# Altium footprint library C_THT.PcbLib: 73 footprints (part 1 of 5)
Each footprint in its own frame and in the unit in brackets; x right, y up, seen from the top. Pads: shape width x height; smd on the part's side, far side on the other; paste and mask are expansions set on the pad; w line width, h text height; cw(c..) or ccw(c..) is an arc to the next point about the centre after c.
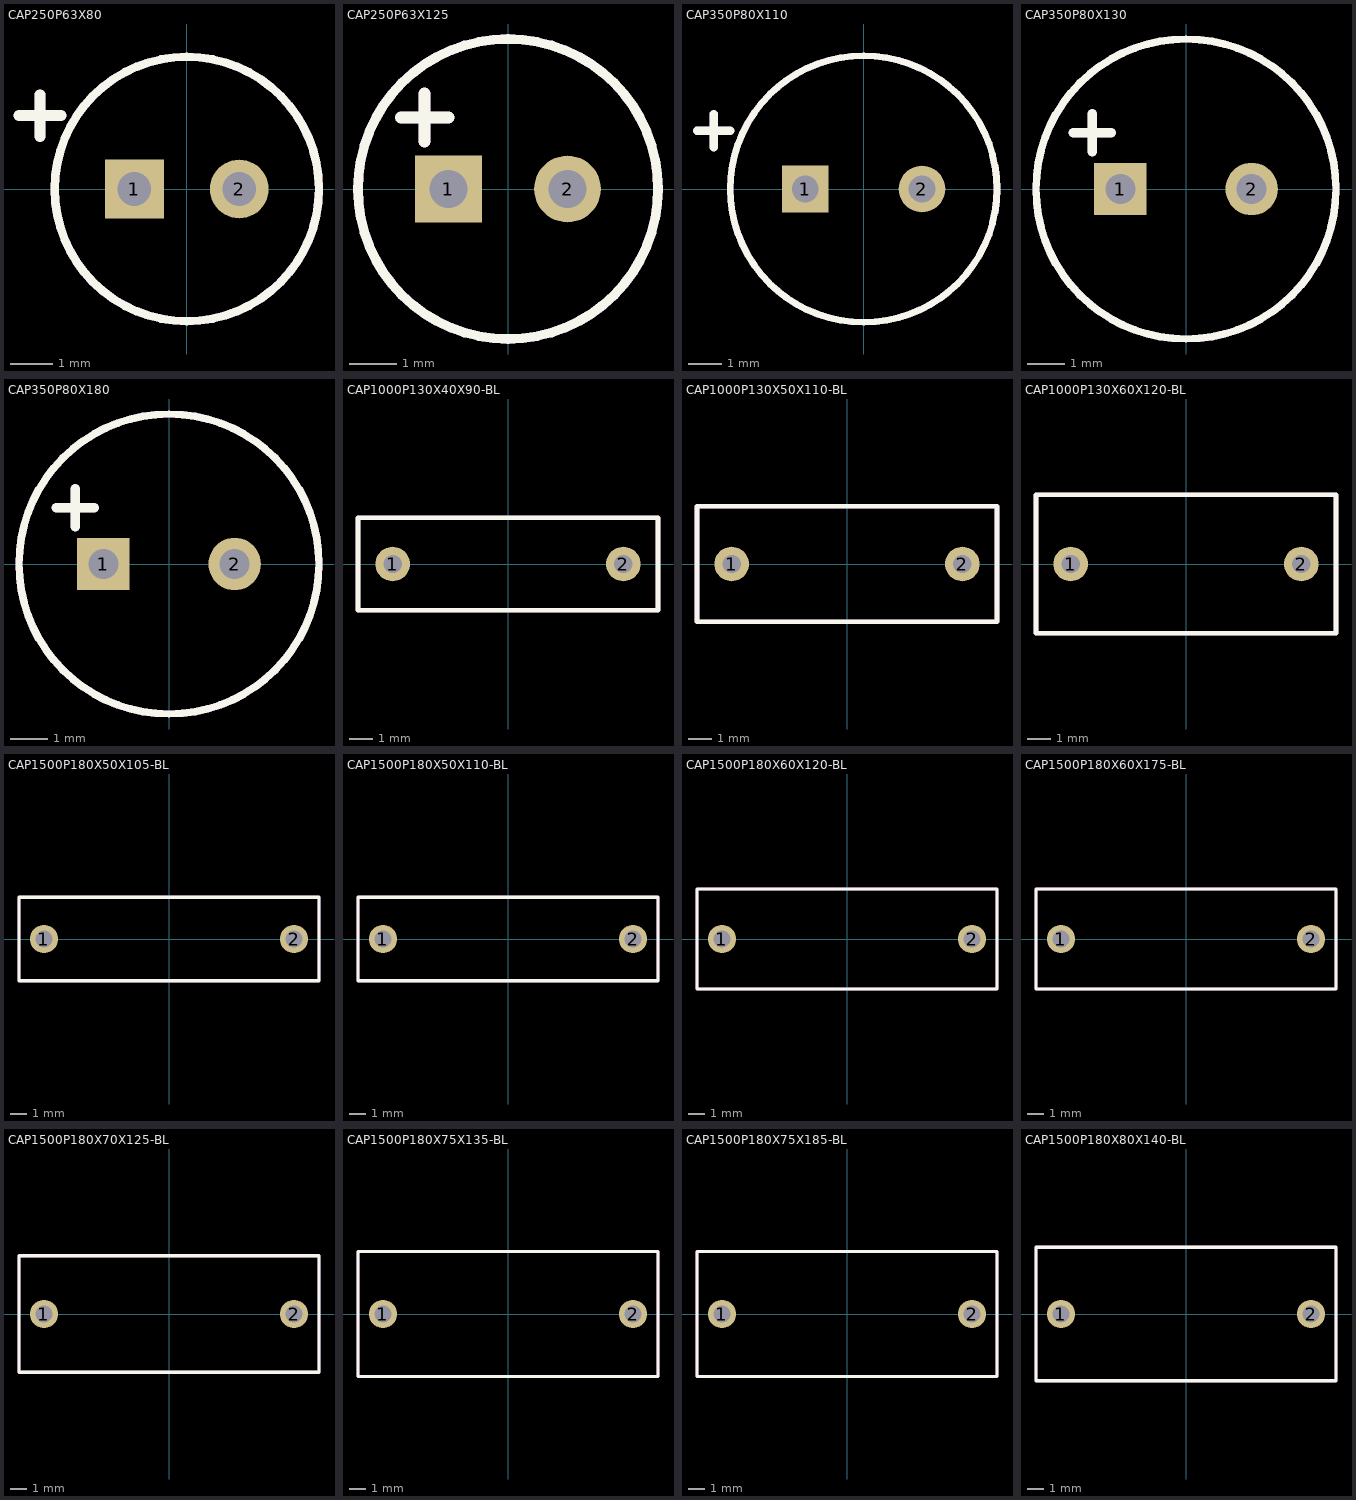
[diagram p0: the footprints below, top view; thin cyan lines are the x and y axes]

## CAP250P63X80 [mm]
height 18
pads (2):
  rect 1.4x1.4 hole 0.8: 1(-1.25,0)
  round 1.4 hole 0.8: 2(1.25,0)
Top Overlay:
  circle w0.2: c0,0 r3.15
  lines w0.254: -4,1.75 -3,1.75 ; -3.5,1.25 -3.5,2.25
Top Assembly:
  circle w0.2: c0,0 r3.15
  lines w0.254: -4,1.75 -3,1.75 ; -3.5,1.25 -3.5,2.25
3D body: height 0, standoff -3, extent 0.95,-0.3 1.55,0.3
3D body: height 0, standoff -3, extent -1.55,-0.3 -0.95,0.3
3D body: height 8, standoff 0, extent -3.15,-3.15 3.15,3.15
3D body: height 8.05, standoff 8, extent 1.575,-2.728 3.15,2.728

## CAP250P63X125 [mm]
height 18
pads (2):
  rect 1.4x1.4 hole 0.8: 1(-1.25,0)
  round 1.4 hole 0.8: 2(1.25,0)
Top Overlay:
  circle w0.2: c0,0 r3.15
  lines w0.254: -2.25,1.5 -1.25,1.5 ; -1.75,1 -1.75,2
Top Assembly:
  circle w0.2: c0,0 r3.15
  lines w0.254: -2.25,1.5 -1.25,1.5 ; -1.75,1 -1.75,2
3D body: height 12.5, standoff 0, extent -3.15,-3.15 3.15,3.15
3D body: height 0, standoff -3, extent -1.55,-0.3 -0.95,0.3
3D body: height 0, standoff -3, extent 0.95,-0.3 1.55,0.3

## CAP350P80X110 [mm]
height 18
pads (2):
  rect 1.4x1.4 hole 0.8: 1(-1.75,0)
  round 1.4 hole 0.8: 2(1.75,0)
Top Overlay:
  circle w0.2: c0,0 r4
  lines w0.254: -5,1.75 -4,1.75 ; -4.5,1.25 -4.5,2.25
Top Assembly:
  circle w0.2: c0,0 r4
  lines w0.254: -5,1.75 -4,1.75 ; -4.5,1.25 -4.5,2.25
3D body: height 11.05, standoff 11, extent 2,-3.464 4,3.464
3D body: height 11, standoff 0, extent -4,-4 4,4
3D body: height 0, standoff -3, extent -2.05,-0.3 -1.45,0.3
3D body: height 0, standoff -3, extent 1.45,-0.3 2.05,0.3

## CAP350P80X130 [mm]
height 18
pads (2):
  rect 1.4x1.4 hole 0.8: 1(-1.75,0)
  round 1.4 hole 0.8: 2(1.75,0)
Top Overlay:
  circle w0.2: c0,0 r4
  lines w0.254: -3,1.5 -2,1.5 ; -2.5,1 -2.5,2
Top Assembly:
  circle w0.2: c0,0 r4
  lines w0.254: -3,1.5 -2,1.5 ; -2.5,1 -2.5,2
3D body: height 0, standoff -3, extent 1.45,-0.3 2.05,0.3
3D body: height 0, standoff -3, extent -2.05,-0.3 -1.45,0.3
3D body: height 13, standoff 0, extent -4,-4 4,4

## CAP350P80X180 [mm]
height 18
pads (2):
  rect 1.4x1.4 hole 0.8: 1(-1.75,0)
  round 1.4 hole 0.8: 2(1.75,0)
Top Overlay:
  circle w0.2: c0,0 r4
  lines w0.254: -3,1.5 -2,1.5 ; -2.5,1 -2.5,2
Top Assembly:
  circle w0.2: c0,0 r4
  lines w0.254: -3,1.5 -2,1.5 ; -2.5,1 -2.5,2
3D body: height 0, standoff -3, extent 1.45,-0.3 2.05,0.3
3D body: height 0, standoff -3, extent -2.05,-0.3 -1.45,0.3
3D body: height 18, standoff 0, extent -4,-4 4,4

## CAP1000P130X40X90-BL [mm]
pads (2):
  round 1.5 hole 0.8: 1(-5,0) 2(5,0)
Top Overlay:
  lines w0.2: -6.5,-2 6.5,-2 6.5,2 -6.5,2 -6.5,-2
Top Assembly:
  lines w0.2: -6.5,-2 6.5,-2 6.5,2 -6.5,2 -6.5,-2
3D body: height 9, standoff 0, extent -6.5,-2 6.5,2
3D body: height 0, standoff -4, extent 4.7,-0.3 5.3,0.3
3D body: height 0, standoff -4, extent -5.3,-0.3 -4.7,0.3

## CAP1000P130X50X110-BL [mm]
pads (2):
  round 1.5 hole 0.8: 1(-5,0) 2(5,0)
Top Overlay:
  lines w0.2: -6.5,-2.5 -6.5,2.5 6.5,2.5 6.5,-2.5 -6.5,-2.5
Top Assembly:
  lines w0.2: -6.5,-2.5 -6.5,2.5 6.5,2.5 6.5,-2.5 -6.5,-2.5
3D body: height 0, standoff -4, extent -5.3,-0.3 -4.7,0.3
3D body: height 0, standoff -4, extent 4.7,-0.3 5.3,0.3
3D body: height 11, standoff 0, extent -6.5,-2.5 6.5,2.5

## CAP1000P130X60X120-BL [mm]
pads (2):
  round 1.5 hole 0.8: 1(-5,0) 2(5,0)
Top Overlay:
  lines w0.2: -6.5,-3 -6.5,3 6.5,3 6.5,-3 -6.5,-3
Top Assembly:
  lines w0.2: -6.5,-3 -6.5,3 6.5,3 6.5,-3 -6.5,-3
3D body: height 0, standoff -4, extent -5.3,-0.3 -4.7,0.3
3D body: height 0, standoff -4, extent 4.7,-0.3 5.3,0.3
3D body: height 12, standoff 0, extent -6.5,-3 6.5,3

## CAP1500P180X50X105-BL [mm]
pads (2):
  round 1.7 hole 1: 1(-7.5,0) 2(7.5,0)
Top Overlay:
  lines w0.2: -9,-2.5 -9,2.5 9,2.5 9,-2.5 -9,-2.5
Top Assembly:
  lines w0.2: -9,-2.5 -9,2.5 9,2.5 9,-2.5 -9,-2.5
3D body: height 0, standoff -4, extent -7.9,-0.4 -7.1,0.4
3D body: height 0, standoff -4, extent 7.1,-0.4 7.9,0.4
3D body: height 10.5, standoff 0, extent -9,-2.5 9,2.5

## CAP1500P180X50X110-BL [mm]
pads (2):
  round 1.7 hole 1: 1(-7.5,0) 2(7.5,0)
Top Overlay:
  lines w0.2: -9,-2.5 -9,2.5 9,2.5 9,-2.5 -9,-2.5
Top Assembly:
  lines w0.2: -9,-2.5 -9,2.5 9,2.5 9,-2.5 -9,-2.5
3D body: height 0, standoff -4, extent -7.9,-0.4 -7.1,0.4
3D body: height 0, standoff -4, extent 7.1,-0.4 7.9,0.4
3D body: height 11, standoff 0, extent -9,-2.5 9,2.5

## CAP1500P180X60X120-BL [mm]
pads (2):
  round 1.7 hole 1: 1(-7.5,0) 2(7.5,0)
Top Overlay:
  lines w0.2: -9,-3 9,-3 9,3 -9,3 -9,-3
Top Assembly:
  lines w0.2: -9,-3 9,-3 9,3 -9,3 -9,-3
3D body: height 12, standoff 0, extent -9,-3 9,3
3D body: height 0, standoff -4, extent 7.1,-0.4 7.9,0.4
3D body: height 0, standoff -4, extent -7.9,-0.4 -7.1,0.4

## CAP1500P180X60X175-BL [mm]
pads (2):
  round 1.7 hole 1: 1(-7.5,0) 2(7.5,0)
Top Overlay:
  lines w0.2: -9,-3 -9,3 9,3 9,-3 -9,-3
Top Assembly:
  lines w0.2: -9,-3 -9,3 9,3 9,-3 -9,-3
3D body: height 0, standoff -4, extent -7.9,-0.4 -7.1,0.4
3D body: height 0, standoff -4, extent 7.1,-0.4 7.9,0.4
3D body: height 17.5, standoff 0, extent -9,-3 9,3

## CAP1500P180X70X125-BL [mm]
pads (2):
  round 1.7 hole 1: 1(-7.5,0) 2(7.5,0)
Top Overlay:
  lines w0.2: -9,-3.5 -9,3.5 9,3.5 9,-3.5 -9,-3.5
Top Assembly:
  lines w0.2: -9,-3.5 -9,3.5 9,3.5 9,-3.5 -9,-3.5
3D body: height 0, standoff -4, extent -7.9,-0.4 -7.1,0.4
3D body: height 0, standoff -4, extent 7.1,-0.4 7.9,0.4
3D body: height 12.5, standoff 0, extent -9,-3.5 9,3.5

## CAP1500P180X75X135-BL [mm]
pads (2):
  round 1.7 hole 1: 1(-7.5,0) 2(7.5,0)
Top Overlay:
  lines w0.2: -9,-3.75 9,-3.75 9,3.75 -9,3.75 -9,-3.75
Top Assembly:
  lines w0.2: -9,-3.75 9,-3.75 9,3.75 -9,3.75 -9,-3.75
3D body: height 13.5, standoff 0, extent -9,-3.75 9,3.75
3D body: height 0, standoff -4, extent 7.1,-0.4 7.9,0.4
3D body: height 0, standoff -4, extent -7.9,-0.4 -7.1,0.4

## CAP1500P180X75X185-BL [mm]
pads (2):
  round 1.7 hole 1: 1(-7.5,0) 2(7.5,0)
Top Overlay:
  lines w0.2: -9,-3.75 -9,3.75 9,3.75 9,-3.75 -9,-3.75
Top Assembly:
  lines w0.2: -9,-3.75 -9,3.75 9,3.75 9,-3.75 -9,-3.75
3D body: height 0, standoff -4, extent -7.9,-0.4 -7.1,0.4
3D body: height 0, standoff -4, extent 7.1,-0.4 7.9,0.4
3D body: height 18.5, standoff 0, extent -9,-3.75 9,3.75

## CAP1500P180X80X140-BL [mm]
pads (2):
  round 1.7 hole 1: 1(-7.5,0) 2(7.5,0)
Top Overlay:
  lines w0.2: -9,-4 -9,4 9,4 9,-4 -9,-4
Top Assembly:
  lines w0.2: -9,-4 -9,4 9,4 9,-4 -9,-4
3D body: height 0, standoff -4, extent -7.9,-0.4 -7.1,0.4
3D body: height 0, standoff -4, extent 7.1,-0.4 7.9,0.4
3D body: height 14, standoff 0, extent -9,-4 9,4